# Altium footprint library 61202021621.PcbLib: 1 footprints
Each footprint in its own frame and in the unit in brackets; x right, y up, seen from the top. Pads: shape width x height; smd on the part's side, far side on the other; paste and mask are expansions set on the pad; w line width, h text height; cw(c..) or ccw(c..) is an arc to the next point about the centre after c.
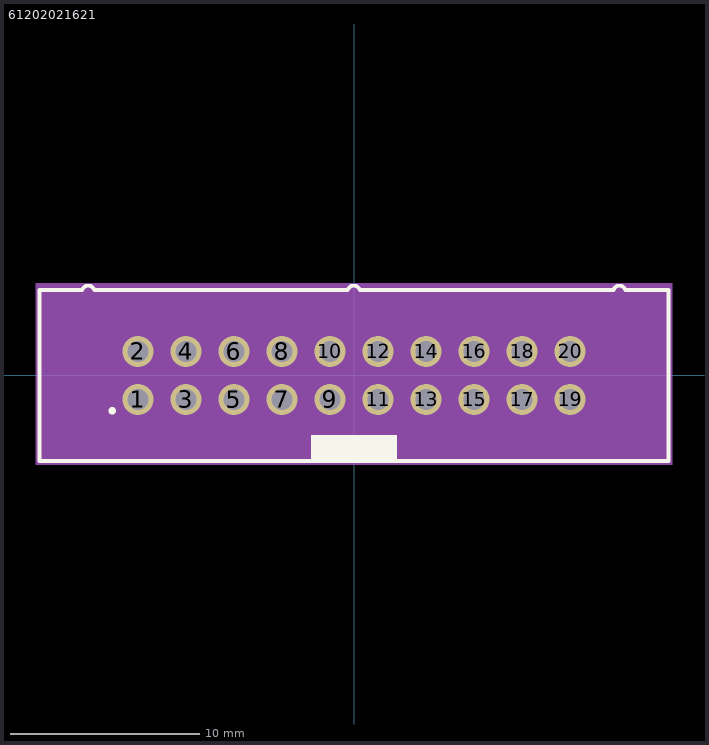
[diagram p0: the footprint, top view; thin cyan lines are the x and y axes]

## 61202021621 [mm]
pads (20):
  round 1.65 hole 1.1: 1(-11.43,-1.27) 2(-11.43,1.27) 3(-8.89,-1.27) 4(-8.89,1.27) 5(-6.35,-1.27) 6(-6.35,1.27) 7(-3.81,-1.27) 8(-3.81,1.27) 9(-1.27,-1.27) 10(-1.27,1.27) 11(1.27,-1.27) 12(1.27,1.27) 13(3.81,-1.27) 14(3.81,1.27) 15(6.35,-1.27) 16(6.35,1.27) 17(8.89,-1.27) 18(8.89,1.27) 19(11.43,-1.27) 20(11.43,1.27)
Top Overlay:
  circle w0.2: c-12.79,-1.87 r0.1
  region: 2.25,-4.425 -2.25,-4.425 -2.25,-3.175 2.25,-3.175
  lines w0.2: -14.381,4.523 cw(c-14.06,4.4) -13.739,4.523 ; -14.38,4.525 -16.63,4.525 -16.63,-4.525 16.63,-4.525 16.63,4.525 14.36,4.525 ; -13.74,4.525 -0.33,4.525 ; -0.331,4.523 cw(c-0.01,4.4) 0.311,4.523 ; 0.31,4.525 13.72,4.525 ; 13.719,4.523 cw(c14.04,4.4) 14.361,4.523
Assembly Top:
  lines w0.1: -15.97,-3.77 -15.37,-3.16 ; -15.97,3.77 -15.36,3.17 ; -14.3,4.425 -16.53,4.425 -16.53,-4.425 -2.25,-4.425 ; -14.3,4.426 cw(c-14.05,4.43) -13.8,4.426 ; -13.8,4.425 13.8,4.425 ; -2.25,-4.395 -2.25,-3.795 ; -0.25,4.426 cw(c0,4.43) 0.25,4.426 ; 2.25,-4.425 16.53,-4.425 16.53,4.425 14.3,4.425 ; 2.25,-4.415 2.25,-3.815 ; 13.8,4.426 cw(c14.05,4.435) 14.3,4.426 ; 15.35,-3.17 15.96,-3.77 ; 15.36,3.15 15.96,3.76 ; -15.37,-3.16 -15.37,-3.175 -2.25,-3.175 -2.25,-3.775 -15.975,-3.775 -15.975,3.775 15.975,3.775 15.975,-3.775 2.25,-3.775 2.25,-3.175 15.37,-3.175 15.37,3.175 -15.37,3.175 -15.37,-3.16
Courtyard Top:
  region: 16.83,-4.725 -16.83,-4.725 -16.83,4.875 16.83,4.875